# EAGLE library part 1751280 (library ashield)
MKDS 1/ 6-3,5 Printklemme Nennstrom: 10 A Bemessungsspannung: 160 V Raster: 3,5 mm Polzahl: 6 Montageart: Löten Anschlussart: Schraubanschluss Anschlussrichtung vom Leiter zur Platine: 0° Source: http://eshop.phoenixcontact.com .. 1751280.pdf
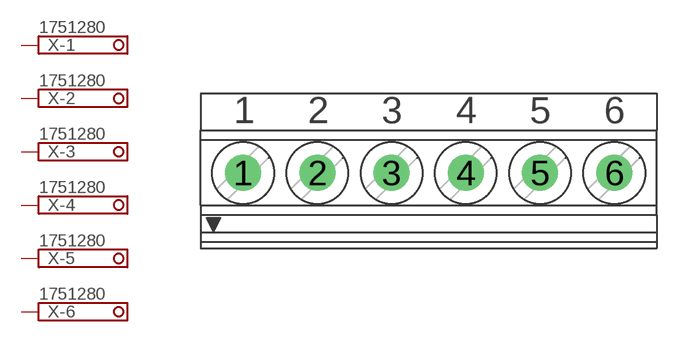
[diagram p4: symbol with the pads of 1751280; footprint 1751280]

Designator prefix X; gates -1=SCHRAUBKLEMME -2=SCHRAUBKLEMME -3=SCHRAUBKLEMME -4=SCHRAUBKLEMME -5=SCHRAUBKLEMME -6=SCHRAUBKLEMME

## 1751280 (MPN: 1751280; OC_FARNELL: unknown; OC_NEWARK: 27R1765)  [1751280]
1  -1:K  pas
2  -2:K  pas
3  -3:K  pas
4  -4:K  pas
5  -5:K  pas
6  -6:K  pas

## Footprint 1751280 (pad centres in mm)
MKDS 1/ 6-3,5 Printklemme Nennstrom: 10 A Bemessungsspannung: 160 V Raster: 3,5 mm Polzahl: 6 Montageart: Löten Anschlussart: Schraubanschluss Anschlussrichtung vom Leiter zur Platine: 0° Source: http://eshop.phoenixcontact.com .. 1751280.pdf
drill 1.1 pad 1.7 round: 1 -8.75,-0.1; 2 -5.25,-0.1; 3 -1.75,-0.1; 4 1.75,-0.1; 5 5.25,-0.1; 6 8.75,-0.1